# Altium footprint library FETs.PcbLib: 13 footprints
Each footprint in its own frame and in the unit in brackets; x right, y up, seen from the top. Pads: shape width x height; smd on the part's side, far side on the other; paste and mask are expansions set on the pad; w line width, h text height; cw(c..) or ccw(c..) is an arc to the next point about the centre after c.
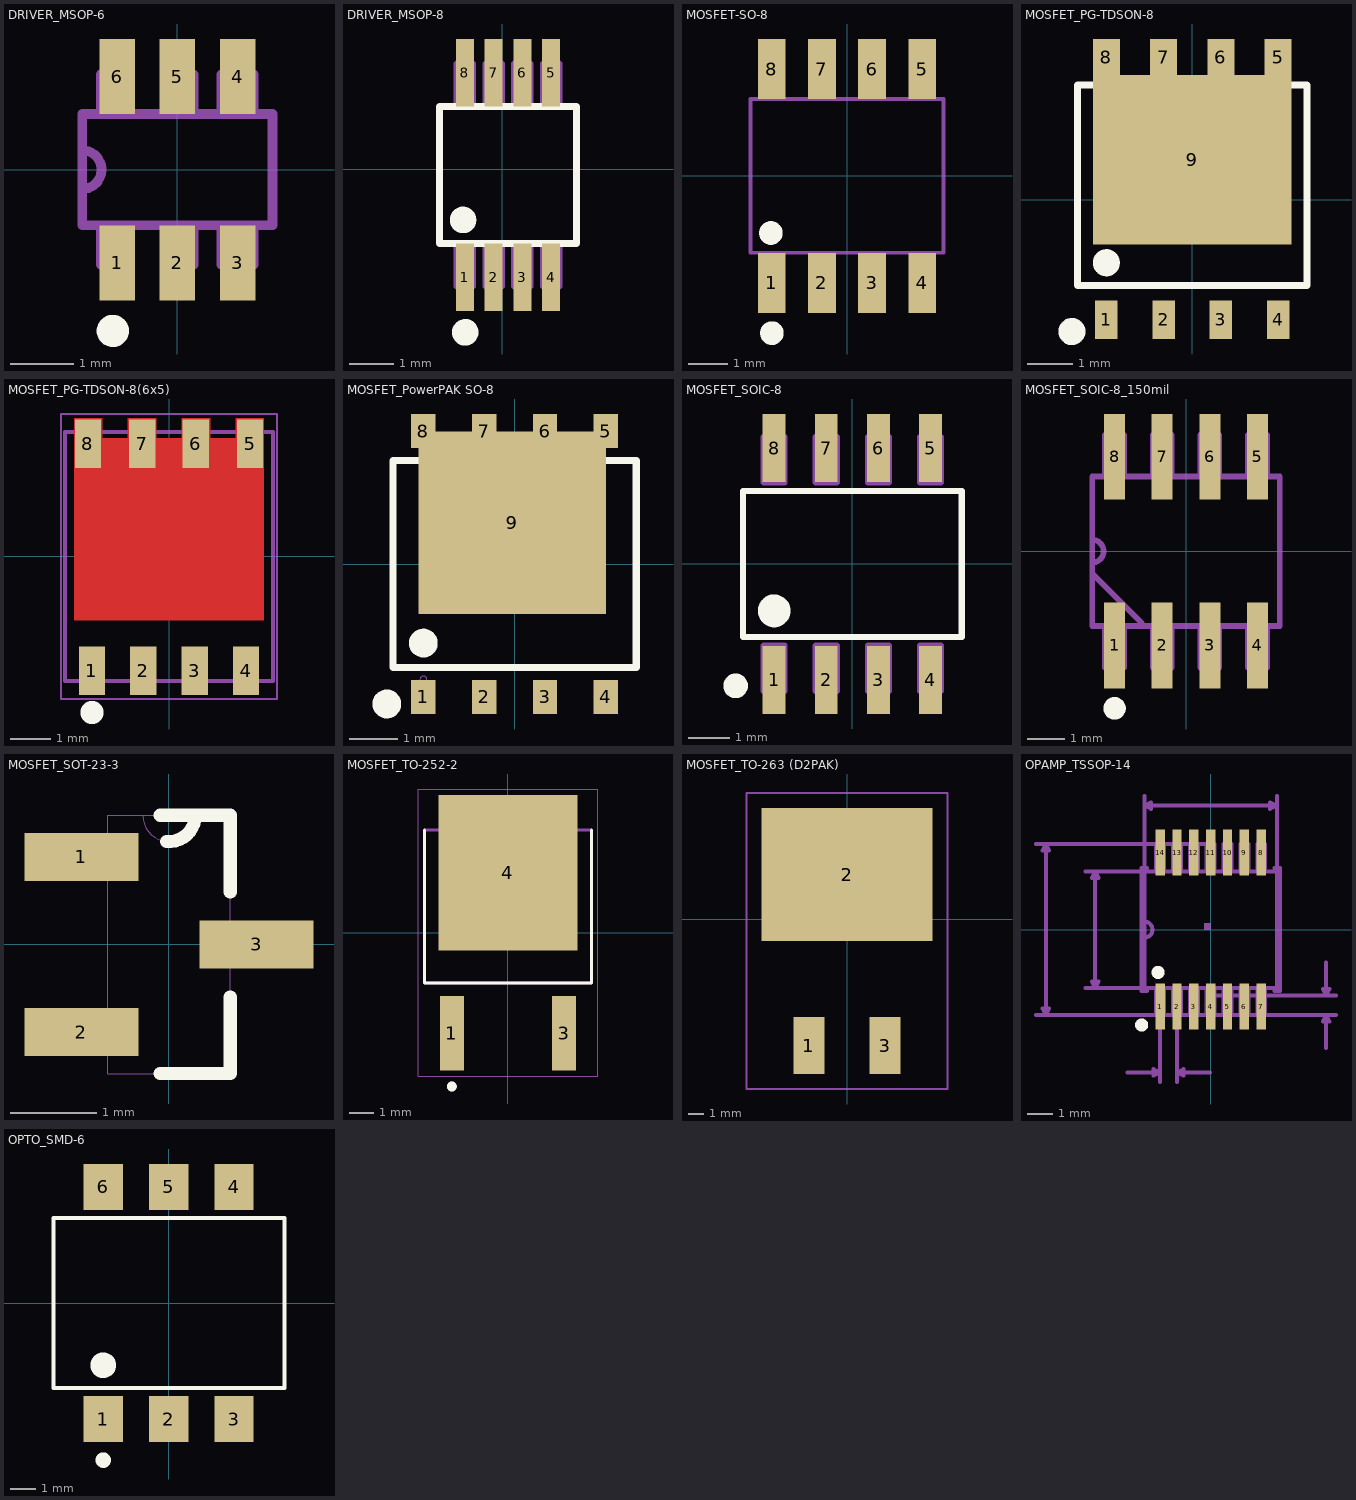
[diagram p0: the footprints below, top view; thin cyan lines are the x and y axes]

## DRIVER_MSOP-6 [mil]
pads (6):
  rect 22x46.5 smd: 1(-37.4,-57.75) 2(0,-57.75) 3(37.4,-57.75) 4(37.4,57.75) 5(0,57.75) 6(-37.4,57.75)
Top Overlay:
  circle w10: c-40,-100 r5
Assembly Top:
  lines w6: -59,-12 ccw(c-59,0) -59,12 ; -47.4,-59 -47.4,-34.5 -27.4,-34.5 ; -47.4,59 -47.4,34.5 -27.4,34.5 ; -10,-34.5 10,-34.5 10,-59 ; -10,34.5 10,34.5 10,59 ; 27.4,-59 27.4,-34.5 47.4,-34.5 47.4,-59 ; 27.4,59 27.4,34.5 47.4,34.5 47.4,59 ; -59,-34.5 59,-34.5 59,34.5 -59,34.5 -59,-34.5
3D body: height 57.09, standoff 0, extent -59.02,-64.01 59.01,54.02

## DRIVER_MSOP-8 [mil]
pads (8):
  rect 16x60 smd: 1(-33.4,-96) 2(-7.8,-96) 3(17.8,-96) 4(43.4,-96) 5(43.4,86) 6(17.8,86) 7(-7.8,86) 8(-33.4,86)
Top Overlay:
  circle w11.81: c-35,-45 r5.91
  circle w11.81: c-33,-145 r5.91
  lines w6: -56,-66 66,-66 66,56 -56,56 -56,-66
Assembly Top:
  lines w6: -40.4,-104 -40.4,-66 -26.4,-66 -26.4,-104 -40.4,-104 ; -40.4,56 -26.4,56 -26.4,94 -40.4,94 -40.4,56 ; -14.8,-104 -14.8,-66 -0.8,-66 -0.8,-104 -14.8,-104 ; -14.8,56 -0.8,56 -0.8,94 -14.8,94 -14.8,56 ; 10.8,-104 10.8,-66 24.8,-66 24.8,-104 10.8,-104 ; 10.8,56 24.8,56 24.8,94 10.8,94 10.8,56 ; 36.4,-104 36.4,-66 50.4,-66 50.4,-104 36.4,-104 ; 36.4,56 50.4,56 50.4,94 36.4,94 36.4,56
3D body: height 43.11, standoff 0, extent -55.99,-104.01 65.98,94.02

## MOSFET-SO-8 [mm]
pads (8):
  rect 0.7x1.525 smd: 1(-1.905,-2.712) 2(-0.635,-2.712) 3(0.635,-2.712) 4(1.905,-2.712) 5(1.905,2.712) 6(0.635,2.712) 7(-0.635,2.712) 8(-1.905,2.712)
Top Overlay:
  circle w0.3: c-1.905,-3.988 r0.15
  circle w0.3: c-1.93,-1.448 r0.15
Assembly Top:
  lines w0.1: -2.45,-1.95 2.45,-1.95 2.45,1.95 -2.45,1.95 -2.45,-1.95
3D body: height 1.75, standoff 0, extent -2.45,-3 2.45,3

## MOSFET_PG-TDSON-8 [mil]
pads (9):
  rect 19.69x33.46 smd: 1(-75,-104.8) 2(-25,-104.8) 3(25,-104.8) 4(75,-104.8)
  rect 23.62x31.5 smd: 5(75,124.53) 6(25,124.53) 7(-25,124.53) 8(-75,124.53)
  rect 173.62x147.64 smd: 9(0,34.96)
Top Overlay:
  circle w11.81: c-75,-55 r5.91
  circle w11.81: c-105,-115 r5.91
  lines w6: -100,-75 100,-75 100,100 -100,100 -100,-75
3D body: height 41.34, standoff 0, extent -98.43,-110 98.43,126.22

## MOSFET_PG-TDSON-8(6x5) [mm] "TDSON, 8-Leads, Body 6.15x5.15mm, Pitch 1.27mm"
height 1
pads (8):
  rect 0.65x1.2 smd: 1(-1.905,-2.825) 2(-0.635,-2.825) 3(0.635,-2.825) 4(1.905,-2.825) 5(2.007,2.794) 6(0.66,2.794) 7(-0.66,2.794) 8(-2.007,2.794)
Top Layer:
  region: 0.315,2.925 1.015,2.925 1.015,3.425 0.315,3.425
  region: -1.015,2.925 -0.315,2.925 -0.315,3.425 -1.015,3.425
  region: 1.65,2.925 2.35,2.925 2.35,3.425 1.65,3.425
  region: -2.35,2.925 -1.65,2.925 -1.65,3.425 -2.35,3.425
  region: -2.35,2.925 -2.35,-1.575 2.35,-1.575 2.35,2.925
Top Overlay:
  circle w0.5: c-1.905,-3.861 r0.036
3D Top:
  lines w0.1: -2.575,-3.075 2.575,-3.075 2.575,3.075 -2.575,3.075 -2.575,-3.075
Courtyard Top:
  lines w0.05: -2.675,-3.525 2.675,-3.525 2.675,3.525 -2.675,3.525 -2.675,-3.525
  lines w0.1: -0.5,0 0.5,0 ; 0,-0.5 0,0.5
3D body: height 1, standoff 0, extent -2.575,-3.075 2.575,3.075

## MOSFET_PowerPAK SO-8 [mil]
pads (9):
  rect 20x28 smd: 1(-75,-109.25) 2(-25,-109.25) 3(25,-109.25) 4(75,-109.25) 5(75,109.25) 6(25,109.25) 7(-25,109.25) 8(-75,109.25)
  rect 153.94x150 smd: 9(-2,34)
Top Overlay:
  circle w11.81: c-105,-115 r5.91
  circle w11.81: c-75,-65 r5.91
  lines w6: -100,-85 -100,85 100,85 100,-85 -100,-85
Assembly Top:
  lines w0: -75,-98.25 cw(c-75,-95.25) -75,-92.25 cw(c-75,-95.25) -75,-98.25
3D body: height 44, standoff 0, extent -102,-121 101,121

## MOSFET_SOIC-8 [mil]
pads (8):
  rect 22x65.5 smd: 1(-75,-111.25) 2(-25,-111.25) 3(25,-111.25) 4(75,-111.25) 5(75,111.25) 6(25,111.25) 7(-25,111.25) 8(-75,111.25)
Top Overlay:
  circle w11.81: c-112,-117 r5.91
  circle w19.68: c-75,-45 r5.91
  lines w6: -105,-70 105,-70 105,70 -105,70 -105,-70
Assembly Top:
  lines w6: -85,-122 -65,-122 -65,-78.5 -85,-78.5 -85,-122 ; -85,78.5 -85,122 -65,122 -65,78.5 -85,78.5 ; -35,-122 -15,-122 -15,-78.5 -35,-78.5 -35,-122 ; -35,78.5 -35,122 -15,122 -15,78.5 -35,78.5 ; 15,-122 35,-122 35,-78.5 15,-78.5 15,-122 ; 15,78.5 15,122 35,122 35,78.5 15,78.5 ; 65,-122 85,-122 85,-78.5 65,-78.5 65,-122 ; 65,78.5 65,122 85,122 85,78.5 65,78.5
3D body: height 69.09, standoff 0, extent -99.01,-122 98,122.02

## MOSFET_SOIC-8_150mil [mil]
pads (8):
  rect 22x90 smd: 1(-75,-99) 2(-25,-99) 3(25,-99) 4(75,-99) 5(75,99) 6(25,99) 7(-25,99) 8(-75,99)
Top Overlay:
  circle w11.81: c-75,-165 r5.91
Assembly Top:
  lines w6: -98.5,-12 ccw(c-98.5,0) -98.5,12 ; -97.69,-24.31 -46.31,-75.69 ; -85,-122 -85,-78.5 -65,-78.5 -65,-122 ; -85,122 -85,78.5 -65,78.5 -65,122 ; -35,-122 -35,-78.5 -15,-78.5 -15,-122 ; -35,122 -35,78.5 -15,78.5 -15,122 ; 15,122 15,78.5 35,78.5 35,122 ; 65,122 65,78.5 85,78.5 85,122 ; -98.5,-78.5 -98.5,78.5 98.5,78.5 98.5,-78.5 -98.5,-78.5 ; 15,-122 15,-78.5 35,-78.5 35,-122 15,-122 ; 65,-122 65,-78.5 85,-78.5 85,-122 65,-122
3D body: height 67.09, standoff 0, extent -97.51,-121 99.5,123.01

## MOSFET_SOT-23-3 [mil]
pads (3):
  rect 52x22 smd: 1(-40,40) 2(-40,-40) 3(40,0)
Top Overlay:
  lines w6: -4,-59 28,-59 28,-24 ; -4,59 28,59 28,24 ; -1.04,47 ccw(c0,58.96) 12,58.96
3D Top:
  lines w0: -12,59 ccw(c0,59) 12,59 ; -49,-50 -49,-30 -28,-30 -28,-50 -49,-50 ; -49,30 -49,50 -28,50 -28,30 -49,30 ; -28,-59 28,-59 28,59 -28,59 -28,-59 ; 28,-10 28,10 49,10 49,-10 28,-10
3D body: height 45.28, standoff 0, extent -47.24,-57.09 47.24,57.09

## MOSFET_TO-252-2 [mm]
pads (3):
  rect 0.97x3.02 smd: 1(-2.286,-4.09) 3(2.286,-4.09)
  rect 5.67x6.32 smd paste-4: 4(0,2.44)
Top Overlay:
  circle w0.2: c-2.286,-6.261 r0.1
  lines w0.127: -3.4,4.176 -3.4,-2.044 3.4,-2.044 3.4,4.176
Top Paste:
  region: 2.27,-0.35 0.55,-0.35 0.55,1.01 2.27,1.01
  region: 2.27,1.76 0.55,1.76 0.55,3.12 2.27,3.12
  region: 2.27,3.87 0.55,3.87 0.55,5.23 2.27,5.23
  region: -0.55,-0.35 -2.27,-0.35 -2.27,1.01 -0.55,1.01
  region: -0.55,1.76 -2.27,1.76 -2.27,3.12 -0.55,3.12
  region: -0.55,3.87 -2.27,3.87 -2.27,5.23 -0.55,5.23
3D Top:
  circle w0.2: c-2.286,-6.261 r0.1
  lines w0.127: -3.4,-2.044 -3.4,4.176 3.4,4.176 3.4,-2.044 -3.4,-2.044
Courtyard Top:
  lines w0.05: -3.65,-5.85 3.65,-5.85 3.65,5.85 -3.65,5.85 -3.65,-5.85
3D body: height 2.55, standoff 0, extent -3.27,-5.08 3.27,4.952

## MOSFET_TO-263 (D2PAK) [mm]
pads (3):
  rect 2.08x3.81 smd: 1(-2.54,-8.427) 3(2.54,-8.427)
  rect 11.43x8.89 smd: 2(0,3.003)
Assembly Top:
  lines w0.152: -6.715,-11.332 6.715,-11.332 6.715,8.448 -6.715,8.448 -6.715,-11.332
3D body: height 2.39, standoff -0.05, extent -3.302,-9.487 3.302,2.121

## OPAMP_TSSOP-14 [mil]
pads (14):
  rect 14x70 smd: 1(-76.77,-117) 2(-51.18,-117) 3(-25.59,-117) 4(0,-117) 5(25.59,-117) 6(51.18,-117) 7(76.77,-117) 8(76.77,117) 9(51.18,117) 10(25.59,117) 11(0,117) 12(-25.59,117) 13(-51.18,117) 14(-76.77,117)
Top Overlay:
  circle w10: c-80,-65 r5
  circle w10: c-105,-145 r5
Assembly Top:
  lines w6: -100.5,-12 ccw(c-100.5,0) -100.5,12 ; -100.5,-88.5 100.5,-88.5 100.5,88.5 -100.5,88.5 -100.5,-88.5 ; -82.77,-130 -70.77,-130 -70.77,-88.5 -82.77,-88.5 -82.77,-130 ; -82.77,88.5 -82.77,130 -70.77,130 -70.77,88.5 -82.77,88.5 ; -57.18,-130 -45.18,-130 -45.18,-88.5 -57.18,-88.5 -57.18,-130 ; -57.18,88.5 -57.18,130 -45.18,130 -45.18,88.5 -57.18,88.5 ; -31.59,-130 -19.59,-130 -19.59,-88.5 -31.59,-88.5 -31.59,-130 ; -31.59,88.5 -31.59,130 -19.59,130 -19.59,88.5 -31.59,88.5 ; -6,-130 6,-130 6,-88.5 -6,-88.5 -6,-130 ; -6,88.5 -6,130 6,130 6,88.5 -6,88.5 ; 19.59,-130 31.59,-130 31.59,-88.5 19.59,-88.5 19.59,-130 ; 19.59,88.5 19.59,130 31.59,130 31.59,88.5 19.59,88.5 ; 45.18,-130 57.18,-130 57.18,-88.5 45.18,-88.5 45.18,-130 ; 45.18,88.5 45.18,130 57.18,130 57.18,88.5 45.18,88.5 ; 70.77,-130 82.77,-130 82.77,-88.5 70.77,-88.5 70.77,-130 ; 70.77,88.5 70.77,130 82.77,130 82.77,88.5 70.77,88.5
Mechanical 22:
  region: 0,0 0,10 -10,10 -10,0
  lines w6: -96.87,-93.5 -105.5,-93.5 -105.5,93.5 -96.87,93.5 ; 96.87,-93.5 105.5,-93.5 105.5,93.5 96.87,93.5
Mechanical 34:
  lines w6: -265.5,-130 0,-130 190.5,-130 ; -265.5,130 0,130 ; -190.5,-88.5 0,-88.5 ; -190.5,88.5 0,88.5 ; -126.77,-217 -76.77,-217 ; -100.5,0 -100.5,203.5 ; -76.77,-232 -76.77,-117 ; -51.18,-232 -51.18,-117 ; -1.18,-217 -51.18,-217 ; 0,-100 190.5,-100 ; 100.5,0 100.5,203.5 ; 175.5,-180 175.5,-130 ; 175.5,-50 175.5,-100 ; -250.5,-130 -245.5,-120 -255.5,-120 -250.5,-130 ; -250.5,-130 -250.5,130 ; -250.5,130 -245.5,120 -255.5,120 -250.5,130 ; -175.5,-88.5 -170.5,-78.5 -180.5,-78.5 -175.5,-88.5 ; -175.5,-88.5 -175.5,88.5 ; -175.5,88.5 -170.5,78.5 -180.5,78.5 -175.5,88.5 ; -100.5,188.5 -90.5,193.5 -90.5,183.5 -100.5,188.5 ; -100.5,188.5 100.5,188.5 ; -76.77,-217 -86.77,-212 -86.77,-222 -76.77,-217 ; -51.18,-217 -41.18,-212 -41.18,-222 -51.18,-217 ; 100.5,188.5 90.5,193.5 90.5,183.5 100.5,188.5 ; 175.5,-130 180.5,-140 170.5,-140 175.5,-130 ; 175.5,-100 180.5,-90 170.5,-90 175.5,-100
3D body: height 44.49, standoff 0, extent -98.43,-125.98 98.42,125.99

## OPTO_SMD-6 [mm]
pads (6):
  rect 1.52x1.78 smd paste+0: 1(-2.54,-4.505)
  rect 1.52x1.78 smd: 2(0,-4.505) 3(2.54,-4.505) 4(2.54,4.505) 5(0,4.505) 6(-2.54,4.505)
Top Overlay:
  circle w0.3: c-2.54,-6.096 r0.15
  circle w0.5: c-2.54,-2.413 r0.25
  lines w0.152: -4.47,-3.302 -4.47,3.302 4.496,3.302 4.496,-3.302 -4.47,-3.302
3D body: height 4.89, standoff -0.19, extent -4.255,-4.506 4.255,4.659